# Altium footprint library hsbest3.PcbLib: 363 footprints (part 8 of 23)
Each footprint in its own frame and in the unit in brackets; x right, y up, seen from the top. Pads: shape width x height; smd on the part's side, far side on the other; paste and mask are expansions set on the pad; w line width, h text height; cw(c..) or ccw(c..) is an arc to the next point about the centre after c.
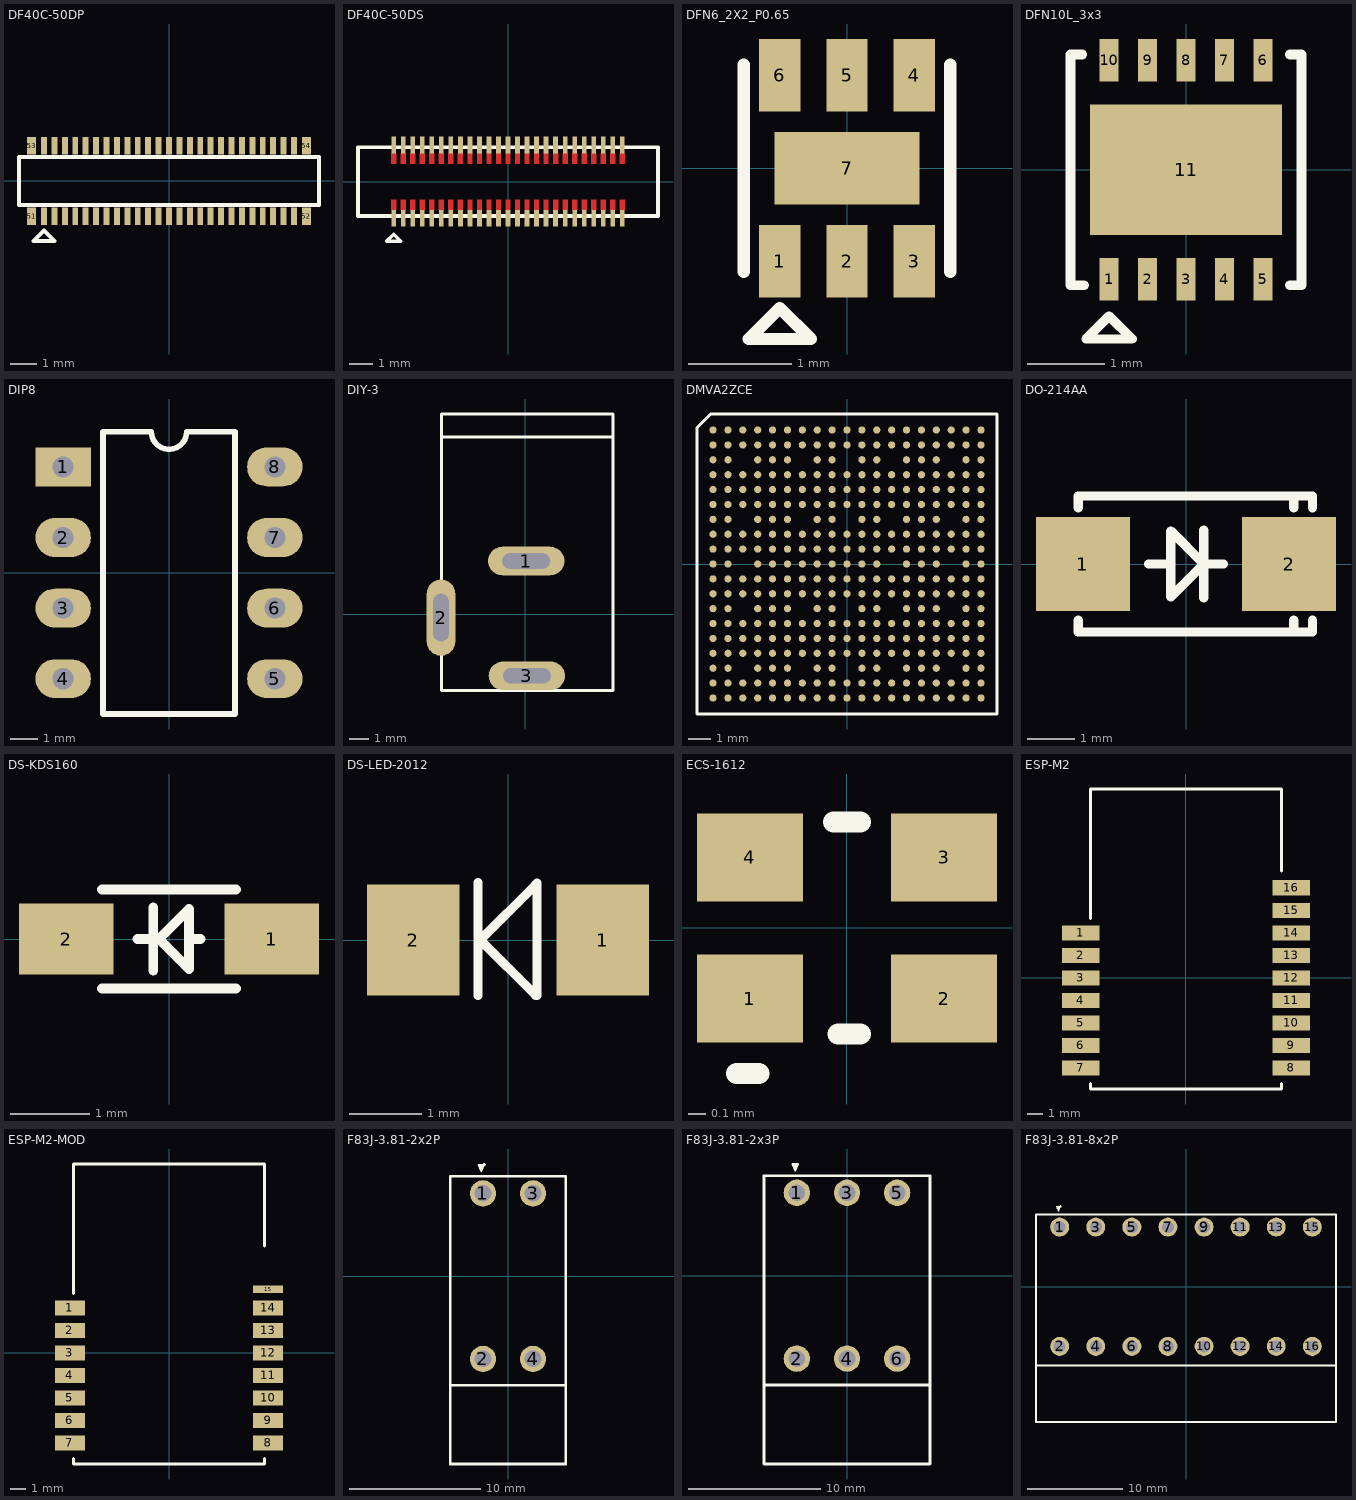
[diagram p7: the footprints below, top view; thin cyan lines are the x and y axes]

## DF40C-50DP [mm]
pads (54):
  rect 0.23x0.66 smd: 1(-4.8,-1.355) 2(-4.8,1.355) 3(-4.4,-1.355) 4(-4.4,1.355) 5(-4,-1.355) 6(-4,1.355) 7(-3.6,-1.355) 8(-3.6,1.355) 9(-3.2,-1.355) 10(-3.2,1.355) 11(-2.8,-1.355) 12(-2.8,1.355) 13(-2.4,-1.355) 14(-2.4,1.355) 15(-2,-1.355) 16(-2,1.355) 17(-1.6,-1.355) 18(-1.6,1.355) 19(-1.2,-1.355) 20(-1.2,1.355) 21(-0.8,-1.355) 22(-0.8,1.355) 23(-0.4,-1.355) 24(-0.4,1.355) 25(0,-1.355) 26(0,1.355) 27(0.4,-1.355) 28(0.4,1.355) 29(0.8,-1.355) 30(0.8,1.355) 31(1.2,-1.355) 32(1.2,1.355) 33(1.6,-1.355) 34(1.6,1.355) 35(2,-1.355) 36(2,1.355) 37(2.4,-1.355) 38(2.4,1.355) 39(2.8,-1.355) 40(2.8,1.355) 41(3.2,-1.355) 42(3.2,1.355) 43(3.6,-1.355) 44(3.6,1.355) 45(4,-1.355) 46(4,1.355) 47(4.4,-1.355) 48(4.4,1.355) 49(4.8,-1.355) 50(4.8,1.355)
  rect 0.35x0.66 smd: 51(-5.275,-1.355) 52(5.275,-1.355) 53(-5.275,1.355) 54(5.275,1.355)
Top Overlay:
  lines w0.15: -5.76,-0.925 5.76,-0.925 5.76,0.925 -5.76,0.925 -5.76,-0.925 ; -5.2,-2.3 -4.8,-1.9 -4.4,-2.3 -5.2,-2.3

## DF40C-50DS [mm]
pads (50):
  rect 0.2x0.7 smd: 1(-4.8,-1.54) 2(-4.8,1.54) 3(-4.4,-1.54) 4(-4.4,1.54) 5(-4,-1.54) 6(-4,1.54) 7(-3.6,-1.54) 8(-3.6,1.54) 9(-3.2,-1.54) 10(-3.2,1.54) 11(-2.8,-1.54) 12(-2.8,1.54) 13(-2.4,-1.54) 14(-2.4,1.54) 15(-2,-1.54) 16(-2,1.54) 17(-1.6,-1.54) 18(-1.6,1.54) 19(-1.2,-1.54) 20(-1.2,1.54) 21(-0.8,-1.54) 22(-0.8,1.54) 23(-0.4,-1.54) 24(-0.4,1.54) 25(0,-1.54) 26(0,1.54) 27(0.4,-1.54) 28(0.4,1.54) 29(0.8,-1.54) 30(0.8,1.54) 31(1.2,-1.54) 32(1.2,1.54) 33(1.6,-1.54) 34(1.6,1.54) 35(2,-1.54) 36(2,1.54) 37(2.4,-1.54) 38(2.4,1.54) 39(2.8,-1.54) 40(2.8,1.54) 41(3.2,-1.54) 42(3.2,1.54) 43(3.6,-1.54) 44(3.6,1.54) 45(4,-1.54) 46(4,1.54) 47(4.4,-1.54) 48(4.4,1.54) 49(4.8,-1.54) 50(4.8,1.54)
Top Layer:
  pour cut-out: -4.9,-1.19 -4.7,-1.19 -4.7,-0.75 -4.9,-0.75
  pour cut-out: -4.5,-1.19 -4.3,-1.19 -4.3,-0.75 -4.5,-0.75
  pour cut-out: -4.1,-1.19 -3.9,-1.19 -3.9,-0.75 -4.1,-0.75
  pour cut-out: -3.7,-1.19 -3.5,-1.19 -3.5,-0.75 -3.7,-0.75
  pour cut-out: -3.3,-1.19 -3.1,-1.19 -3.1,-0.75 -3.3,-0.75
  pour cut-out: -2.9,-1.19 -2.7,-1.19 -2.7,-0.75 -2.9,-0.75
  pour cut-out: -2.5,-1.19 -2.3,-1.19 -2.3,-0.75 -2.5,-0.75
  pour cut-out: -2.1,-1.19 -1.9,-1.19 -1.9,-0.75 -2.1,-0.75
  pour cut-out: -1.7,-1.19 -1.5,-1.19 -1.5,-0.75 -1.7,-0.75
  pour cut-out: -1.3,-1.19 -1.1,-1.19 -1.1,-0.75 -1.3,-0.75
  pour cut-out: -0.9,-1.19 -0.7,-1.19 -0.7,-0.75 -0.9,-0.75
  pour cut-out: -0.5,-1.19 -0.3,-1.19 -0.3,-0.75 -0.5,-0.75
  pour cut-out: -0.1,-1.19 0.1,-1.19 0.1,-0.75 -0.1,-0.75
  pour cut-out: 0.3,-1.19 0.5,-1.19 0.5,-0.75 0.3,-0.75
  pour cut-out: 0.7,-1.19 0.9,-1.19 0.9,-0.75 0.7,-0.75
  pour cut-out: 1.1,-1.19 1.3,-1.19 1.3,-0.75 1.1,-0.75
  pour cut-out: 1.5,-1.19 1.7,-1.19 1.7,-0.75 1.5,-0.75
  pour cut-out: 1.9,-1.19 2.1,-1.19 2.1,-0.75 1.9,-0.75
  pour cut-out: 2.3,-1.19 2.5,-1.19 2.5,-0.75 2.3,-0.75
  pour cut-out: 2.7,-1.19 2.9,-1.19 2.9,-0.75 2.7,-0.75
  pour cut-out: 3.1,-1.19 3.3,-1.19 3.3,-0.75 3.1,-0.75
  pour cut-out: 3.5,-1.19 3.7,-1.19 3.7,-0.75 3.5,-0.75
  pour cut-out: 3.9,-1.19 4.1,-1.19 4.1,-0.75 3.9,-0.75
  pour cut-out: 4.3,-1.19 4.5,-1.19 4.5,-0.75 4.3,-0.75
  pour cut-out: 4.7,-1.19 4.9,-1.19 4.9,-0.75 4.7,-0.75
  pour cut-out: 0.3,0.75 0.5,0.75 0.5,1.19 0.3,1.19
  pour cut-out: 0.7,0.75 0.9,0.75 0.9,1.19 0.7,1.19
  pour cut-out: 1.1,0.75 1.3,0.75 1.3,1.19 1.1,1.19
  pour cut-out: 1.5,0.75 1.7,0.75 1.7,1.19 1.5,1.19
  pour cut-out: 1.9,0.75 2.1,0.75 2.1,1.19 1.9,1.19
  pour cut-out: 2.3,0.75 2.5,0.75 2.5,1.19 2.3,1.19
  pour cut-out: 2.7,0.75 2.9,0.75 2.9,1.19 2.7,1.19
  pour cut-out: 3.1,0.75 3.3,0.75 3.3,1.19 3.1,1.19
  pour cut-out: 3.5,0.75 3.7,0.75 3.7,1.19 3.5,1.19
  pour cut-out: 3.9,0.75 4.1,0.75 4.1,1.19 3.9,1.19
  pour cut-out: 4.3,0.75 4.5,0.75 4.5,1.19 4.3,1.19
  pour cut-out: 4.7,0.75 4.9,0.75 4.9,1.19 4.7,1.19
  pour cut-out: -4.9,0.75 -4.7,0.75 -4.7,1.19 -4.9,1.19
  pour cut-out: -4.5,0.75 -4.3,0.75 -4.3,1.19 -4.5,1.19
  pour cut-out: -4.1,0.75 -3.9,0.75 -3.9,1.19 -4.1,1.19
  pour cut-out: -3.7,0.75 -3.5,0.75 -3.5,1.19 -3.7,1.19
  pour cut-out: -3.3,0.75 -3.1,0.75 -3.1,1.19 -3.3,1.19
  pour cut-out: -2.9,0.75 -2.7,0.75 -2.7,1.19 -2.9,1.19
  pour cut-out: -2.5,0.75 -2.3,0.75 -2.3,1.19 -2.5,1.19
  pour cut-out: -2.1,0.75 -1.9,0.75 -1.9,1.19 -2.1,1.19
  pour cut-out: -1.7,0.75 -1.5,0.75 -1.5,1.19 -1.7,1.19
  pour cut-out: -1.3,0.75 -1.1,0.75 -1.1,1.19 -1.3,1.19
  pour cut-out: -0.9,0.75 -0.7,0.75 -0.7,1.19 -0.9,1.19
  pour cut-out: -0.5,0.75 -0.3,0.75 -0.3,1.19 -0.5,1.19
  pour cut-out: -0.1,0.75 0.1,0.75 0.1,1.19 -0.1,1.19
Top Overlay:
  lines w0.15: -6.3,-1.44 6.3,-1.44 6.3,1.44 -6.3,1.44 -6.3,-1.44 ; -5.1,-2.5 -4.8,-2.2 -4.5,-2.5 -5.1,-2.5

## DFN6_2X2_P0.65 [mm]
pads (7):
  rect 0.4x0.7 smd: 1(-0.65,-0.9) 2(0,-0.9) 3(0.65,-0.9) 4(0.65,0.9) 5(0,0.9) 6(-0.65,0.9)
  rect 1.4x0.7 smd: 7(0,0)
Top Overlay:
  lines w0.12: -1,-1 -1,1 ; 1,-1 1,1 ; -0.95,-1.65 -0.65,-1.35 -0.35,-1.65 -0.95,-1.65

## DFN10L_3x3 [mm]
pads (11):
  rect 0.25x0.55 smd: 1(-1,-1.425) 2(-0.5,-1.425) 3(0,-1.425) 4(0.5,-1.425) 5(1,-1.425) 6(1,1.425) 7(0.5,1.425) 8(0,1.425) 9(-0.5,1.425) 10(-1,1.425)
  rect 2.5x1.7 smd: 11(0,0)
Top Overlay:
  lines w0.12: -1.3,-2.2 -1,-1.9 -0.7,-2.2 -1.3,-2.2
  lines w0.127: -1.35,1.5 -1.5,1.5 -1.5,-1.5 -1.325,-1.5 ; 1.35,-1.5 1.5,-1.5 1.5,1.5 1.35,1.5

## DIP8 [mm]
pads (8):
  rect 2x1.4 hole 0.762: 1(-3.81,3.81)
  oval 2x1.4 hole 0.762: 2(-3.81,1.27) 3(-3.81,-1.27) 4(-3.81,-3.81) 5(3.81,-3.81) 6(3.81,-1.27) 7(3.81,1.27) 8(3.81,3.81)
Top Overlay:
  lines w0.2: -2.375,-5.08 -2.375,5.08 -0.635,5.08 ccw(c0,5.08) 0.635,5.08 2.375,5.08 2.375,-5.08 -2.375,-5.08

## DIY-3 [mm]
pads (3):
  oval 4x1.5 hole 0.8 slot 2.5 at 0 deg: 1(0.059,2.779) 3(0.092,-3.243)
  oval 1.5x4 hole 0.8 slot 2.5 at 90 deg: 2(-4.41,-0.191)
Top Overlay:
  lines w0.15: -4.384,9.29 4.616,9.29 ; -4.384,-4.01 4.616,-4.01 4.616,10.49 -4.384,10.49 -4.384,-4.01

## DMVA2ZCE [mm]
pads (338):
  round 0.315 smd: A1(-5.85,5.85) A2(-5.2,5.85) A3(-4.55,5.85) A4(-3.9,5.85) A5(-3.25,5.85) A6(-2.6,5.85) A7(-1.95,5.85) A8(-1.3,5.85) A9(-0.65,5.85) A10(0,5.85) A11(0.65,5.85) A12(1.3,5.85) A13(1.95,5.85) A14(2.6,5.85) A15(3.25,5.85) A16(3.9,5.85) A17(4.55,5.85) A18(5.2,5.85) A19(5.85,5.85) B1(-5.85,5.2) B2(-5.2,5.2) B3(-4.55,5.2) B4(-3.9,5.2) B5(-3.25,5.2) B6(-2.6,5.2) B7(-1.95,5.2) B8(-1.3,5.2) B9(-0.65,5.2) B10(0,5.2) B11(0.65,5.2) B12(1.3,5.2) B13(1.95,5.2) B14(2.6,5.2) B15(3.25,5.2) B16(3.9,5.2) B17(4.55,5.2) B18(5.2,5.2) B19(5.85,5.2) C1(-5.85,4.55) C2(-5.2,4.55) C4(-3.9,4.55) C5(-3.25,4.55) C6(-2.6,4.55) C8(-1.3,4.55) C9(-0.65,4.55) C11(0.65,4.55) C12(1.3,4.55) C14(2.6,4.55) C15(3.25,4.55) C16(3.9,4.55) C18(5.2,4.55) C19(5.85,4.55) D1(-5.85,3.9) D2(-5.2,3.9) D3(-4.55,3.9) D4(-3.9,3.9) D5(-3.25,3.9) D6(-2.6,3.9) D7(-1.95,3.9) D8(-1.3,3.9) D9(-0.65,3.9) D10(0,3.9) D11(0.65,3.9) D12(1.3,3.9) D13(1.95,3.9) D14(2.6,3.9) D15(3.25,3.9) D16(3.9,3.9) D17(4.55,3.9) D18(5.2,3.9) D19(5.85,3.9) E1(-5.85,3.25) E2(-5.2,3.25) E3(-4.55,3.25) E4(-3.9,3.25) E5(-3.25,3.25) E6(-2.6,3.25) E7(-1.95,3.25) E8(-1.3,3.25) E9(-0.65,3.25) E10(0,3.25) E11(0.65,3.25) E12(1.3,3.25) E13(1.95,3.25) E14(2.6,3.25) E15(3.25,3.25) E16(3.9,3.25) E17(4.55,3.25) E18(5.2,3.25) E19(5.85,3.25) F1(-5.85,2.6) F2(-5.2,2.6) F3(-4.55,2.6) F4(-3.9,2.6) F5(-3.25,2.6) F6(-2.6,2.6) F7(-1.95,2.6) F8(-1.3,2.6) F9(-0.65,2.6) F10(0,2.6) F11(0.65,2.6) F12(1.3,2.6) F13(1.95,2.6) F14(2.6,2.6) F15(3.25,2.6) F16(3.9,2.6) F17(4.55,2.6) F18(5.2,2.6) F19(5.85,2.6) G1(-5.85,1.95) G2(-5.2,1.95) G4(-3.9,1.95) G5(-3.25,1.95) G6(-2.6,1.95) G8(-1.3,1.95) G9(-0.65,1.95) G11(0.65,1.95) G12(1.3,1.95) G14(2.6,1.95) G15(3.25,1.95) G16(3.9,1.95) G18(5.2,1.95) G19(5.85,1.95) H1(-5.85,1.3) H2(-5.2,1.3) H3(-4.55,1.3) H4(-3.9,1.3) H5(-3.25,1.3) H6(-2.6,1.3) H7(-1.95,1.3) H8(-1.3,1.3) H9(-0.65,1.3) H10(0,1.3) H11(0.65,1.3) H12(1.3,1.3) H13(1.95,1.3) H14(2.6,1.3) H15(3.25,1.3) H16(3.9,1.3) H17(4.55,1.3) H18(5.2,1.3) H19(5.85,1.3) J1(-5.85,0.65) J2(-5.2,0.65) J3(-4.55,0.65) J4(-3.9,0.65) J5(-3.25,0.65) J6(-2.6,0.65) J7(-1.95,0.65) J8(-1.3,0.65) J9(-0.65,0.65) J10(0,0.65) J11(0.65,0.65) J12(1.3,0.65) J13(1.95,0.65) J14(2.6,0.65) J15(3.25,0.65) J16(3.9,0.65) J17(4.55,0.65) J18(5.2,0.65) J19(5.85,0.65) K1(-5.85,0) K2(-5.2,0) K4(-3.9,0) K5(-3.25,0) K6(-2.6,0) K7(-1.95,0) K8(-1.3,0) K9(-0.65,0) K10(0,0) K11(0.65,0) K12(1.3,0) K14(2.6,0) K15(3.25,0) K16(3.9,0) K18(5.2,0) K19(5.85,0) L1(-5.85,-0.65) L2(-5.2,-0.65) L3(-4.55,-0.65) L4(-3.9,-0.65) L5(-3.25,-0.65) L6(-2.6,-0.65) L7(-1.95,-0.65) L8(-1.3,-0.65) L9(-0.65,-0.65) L10(0,-0.65) L11(0.65,-0.65) L12(1.3,-0.65) L13(1.95,-0.65) L14(2.6,-0.65) L15(3.25,-0.65) L16(3.9,-0.65) L17(4.55,-0.65) L18(5.2,-0.65) L19(5.85,-0.65) M1(-5.85,-1.3) M2(-5.2,-1.3) M3(-4.55,-1.3) M4(-3.9,-1.3) M5(-3.25,-1.3) M6(-2.6,-1.3) M7(-1.95,-1.3) M8(-1.3,-1.3) M9(-0.65,-1.3) M10(0,-1.3) M11(0.65,-1.3) M12(1.3,-1.3) M13(1.95,-1.3) M14(2.6,-1.3) M15(3.25,-1.3) M16(3.9,-1.3) M17(4.55,-1.3) M18(5.2,-1.3) M19(5.85,-1.3) N1(-5.85,-1.95) N2(-5.2,-1.95) N4(-3.9,-1.95) N5(-3.25,-1.95) N6(-2.6,-1.95) N8(-1.3,-1.95) N9(-0.65,-1.95) N11(0.65,-1.95) N12(1.3,-1.95) N14(2.6,-1.95) N15(3.25,-1.95) N16(3.9,-1.95) N18(5.2,-1.95) N19(5.85,-1.95) P1(-5.85,-2.6) P2(-5.2,-2.6) P3(-4.55,-2.6) P4(-3.9,-2.6) P5(-3.25,-2.6) P6(-2.6,-2.6) P7(-1.95,-2.6) P8(-1.3,-2.6) P9(-0.65,-2.6) P10(0,-2.6) P11(0.65,-2.6) P12(1.3,-2.6) P13(1.95,-2.6) P14(2.6,-2.6) P15(3.25,-2.6) P16(3.9,-2.6) P17(4.55,-2.6) P18(5.2,-2.6) P19(5.85,-2.6) R1(-5.85,-3.25) R2(-5.2,-3.25) R3(-4.55,-3.25) R4(-3.9,-3.25) R5(-3.25,-3.25) R6(-2.6,-3.25) R7(-1.95,-3.25) R8(-1.3,-3.25) R9(-0.65,-3.25) R10(0,-3.25) R11(0.65,-3.25) R12(1.3,-3.25) R13(1.95,-3.25) R14(2.6,-3.25) R15(3.25,-3.25) R16(3.9,-3.25) R17(4.55,-3.25) R18(5.2,-3.25) R19(5.85,-3.25) T1(-5.85,-3.9) T2(-5.2,-3.9) T3(-4.55,-3.9) T4(-3.9,-3.9) T5(-3.25,-3.9) T6(-2.6,-3.9) T7(-1.95,-3.9) T8(-1.3,-3.9) T9(-0.65,-3.9) T10(0,-3.9) T11(0.65,-3.9) T12(1.3,-3.9) T13(1.95,-3.9) T14(2.6,-3.9) T15(3.25,-3.9) T16(3.9,-3.9) T17(4.55,-3.9) T18(5.2,-3.9) T19(5.85,-3.9) U1(-5.85,-4.55) U2(-5.2,-4.55) U4(-3.9,-4.55) U5(-3.25,-4.55) U6(-2.6,-4.55) U8(-1.3,-4.55) U9(-0.65,-4.55) U11(0.65,-4.55) U12(1.3,-4.55) U14(2.6,-4.55) U15(3.25,-4.55) U16(3.9,-4.55) U18(5.2,-4.55) U19(5.85,-4.55) V1(-5.85,-5.2) V2(-5.2,-5.2) V3(-4.55,-5.2) V4(-3.9,-5.2) V5(-3.25,-5.2) V6(-2.6,-5.2) V7(-1.95,-5.2) V8(-1.3,-5.2) V9(-0.65,-5.2) V10(0,-5.2) V11(0.65,-5.2) V12(1.3,-5.2) V13(1.95,-5.2) V14(2.6,-5.2) V15(3.25,-5.2) V16(3.9,-5.2) V17(4.55,-5.2) V18(5.2,-5.2) V19(5.85,-5.2) W1(-5.85,-5.85) W2(-5.2,-5.85) W3(-4.55,-5.85) W4(-3.9,-5.85) W5(-3.25,-5.85) W6(-2.6,-5.85) W7(-1.95,-5.85) W8(-1.3,-5.85) W9(-0.65,-5.85) W10(0,-5.85) W11(0.65,-5.85) W12(1.3,-5.85) W13(1.95,-5.85) W14(2.6,-5.85) W15(3.25,-5.85) W16(3.9,-5.85) W17(4.55,-5.85) W18(5.2,-5.85) W19(5.85,-5.85)
Top Overlay:
  lines w0.125: -6.55,-6.55 -6.55,5.95 -5.95,6.55 6.55,6.55 6.55,-6.55 -6.55,-6.55

## DO-214AA [mm]
pads (2):
  rrect0% 2x2 smd: 1(-2.2,0) 2(2.2,0)
Top Overlay:
  lines w0.2: -2.3,-1.2 -2.3,-1.45 2.7,-1.45 2.7,-1.2 ; -2.3,1.2 -2.3,1.45 2.7,1.45 2.7,1.2 ; -0.8,0 -0.322,0 ; -0.322,-0.7 -0.322,0.7 ; -0.322,0.702 0.38,0 ; -0.32,-0.7 0.38,0 ; 0.38,-0.72 0.38,0.72 ; 0.8,0 0.38,0 ; 2.3,-1.45 2.3,-1.2 ; 2.3,1.2 2.3,1.45

## DS-KDS160 [mm]
pads (2):
  rect 1.2x0.9 smd: 1(1.3,0) 2(-1.3,0)
Top Overlay:
  lines w0.125: -0.85,-0.625 0.85,-0.625 ; -0.85,0.625 0.85,0.625 ; -0.4,0 -0.254,0 ; -0.2,-0.4 -0.2,0.4 ; 0.254,0 0.4,0 ; -0.127,0 0.254,-0.381 0.254,0.381 -0.127,0

## DS-LED-2012 [mm]
pads (2):
  rect 1.27x1.524 smd: 1(1.3,0) 2(-1.3,0)
Top Overlay:
  lines w0.125: -0.41,-0.76 -0.41,0.79 ; 0.381,-0.762 -0.381,0 0.381,0.762 ; 0.4,-0.76 0.4,0.785

## ECS-1612 [mm]
height 0.6
pads (4):
  rect 0.6x0.5 smd: 1(-0.55,-0.4) 2(0.55,-0.4) 3(0.55,0.4) 4(-0.55,0.4)
Top Overlay:
  lines w0.12: -0.625,-0.825 -0.5,-0.825 ; -0.075,0.6 0.075,0.6 ; -0.05,-0.6 0.075,-0.6

## ESP-M2 [mm]
pads (16):
  rect 2.5x1 smd: 1(-7,3) 2(-7,1.5) 3(-7,0) 4(-7,-1.5) 5(-7,-3) 6(-7,-4.5) 7(-7,-6) 8(7,-6) 9(7,-4.5) 10(7,-3) 11(7,-1.5) 12(7,0) 13(7,1.5) 14(7,3) 15(7,4.5) 16(7,6)
Top Overlay:
  lines w0.2: -6.35,-7.4 6.35,-7.4 ; -6.35,-7.375 -6.35,-7.025 ; -6.35,3.96 -6.35,12.575 6.35,12.575 6.35,7.125 ; 6.35,-7.375 6.35,-7.025

## ESP-M2-MOD [mm]
pads (15):
  rect 2x1 smd: 1(-6.6,3) 2(-6.6,1.5) 3(-6.6,0) 4(-6.6,-1.5) 5(-6.6,-3) 6(-6.6,-4.5) 7(-6.6,-6) 8(6.6,-6) 9(6.6,-4.5) 10(6.6,-3) 11(6.6,-1.5) 12(6.6,0) 13(6.6,1.5) 14(6.6,3)
  rect 2x0.5 smd: 15(6.6,4.25)
Top Overlay:
  lines w0.2: -6.35,-7.4 6.35,-7.4 ; -6.35,-7.375 -6.35,-7.025 ; -6.35,3.96 -6.35,12.575 6.35,12.575 6.35,7.125 ; 6.35,-7.375 6.35,-7.025

## F83J-3.81-2x2P [mm]
pads (4):
  round 2 hole 1.27: 1(-1.905,6.3) 2(-1.905,-6.3) 3(1.905,6.3) 4(1.905,-6.3)
Top Overlay:
  circle w0.127: c-1.805,8.484 r0.052
  lines w0.127: -2.23,8.445 -2.23,8.484 ; -2.224,8.431 -2.224,8.484 ; -2.14,8.235 -2.14,8.484 ; -2.057,8.039 -2.057,8.484 ; -1.973,8.093 -1.973,8.484 ; -1.889,8.288 -1.889,8.484 ; -2.247,8.484 -1.805,8.484 -2.026,7.968 -2.247,8.484
  lines w0.203: -4.405,-8.3 4.405,-8.3 ; -4.405,-14.3 -4.405,7.6 4.405,7.6 4.405,-14.3 -4.405,-14.3

## F83J-3.81-2x3P [mm]
pads (6):
  round 2 hole 1.27: 1(-3.81,6.3) 2(-3.81,-6.3) 3(0,6.3) 4(0,-6.3) 5(3.81,6.3) 6(3.81,-6.3)
Top Overlay:
  lines w0.127: -4.135,8.445 -4.135,8.484 ; -4.129,8.431 -4.129,8.484 ; -4.045,8.235 -4.045,8.484 ; -3.962,8.039 -3.962,8.484 ; -3.878,8.093 -3.878,8.484 ; -3.794,8.288 -3.794,8.484 ; -4.152,8.484 -3.71,8.484 -3.931,7.968 -4.152,8.484
  lines w0.203: -6.31,-8.3 6.295,-8.3 ; 6.22,7.6 -6.31,7.6 -6.31,-14.3 6.245,-14.3 ; 6.31,-14.3 6.31,7.6

## F83J-3.81-8x2P [mm]
pads (16):
  round 2 hole 1.27: 1(-13.335,6.3) 2(-13.335,-6.3) 3(-9.525,6.3) 4(-9.525,-6.3) 5(-5.715,6.3) 6(-5.715,-6.3) 7(-1.905,6.3) 8(-1.905,-6.3) 9(1.905,6.3) 10(1.905,-6.3) 11(5.715,6.3) 12(5.715,-6.3) 13(9.525,6.3) 14(9.525,-6.3) 15(13.335,6.3) 16(13.335,-6.3)
Top Overlay:
  circle w0.127: c-13.235,8.484 r0.052
  lines w0.127: -13.66,8.445 -13.66,8.484 ; -13.654,8.431 -13.654,8.484 ; -13.57,8.235 -13.57,8.484 ; -13.487,8.039 -13.487,8.484 ; -13.403,8.093 -13.403,8.484 ; -13.319,8.288 -13.319,8.484 ; -13.677,8.484 -13.235,8.484 -13.456,7.968 -13.677,8.484
  lines w0.203: -15.835,-8.3 15.835,-8.3 ; -15.835,-14.3 -15.835,7.6 15.835,7.6 15.835,-14.3 -15.835,-14.3